# Altium footprint library TO252 (DPAK).PcbLib: 1 footprints
Each footprint in its own frame and in the unit in brackets; x right, y up, seen from the top. Pads: shape width x height; smd on the part's side, far side on the other; paste and mask are expansions set on the pad; w line width, h text height; cw(c..) or ccw(c..) is an arc to the next point about the centre after c.
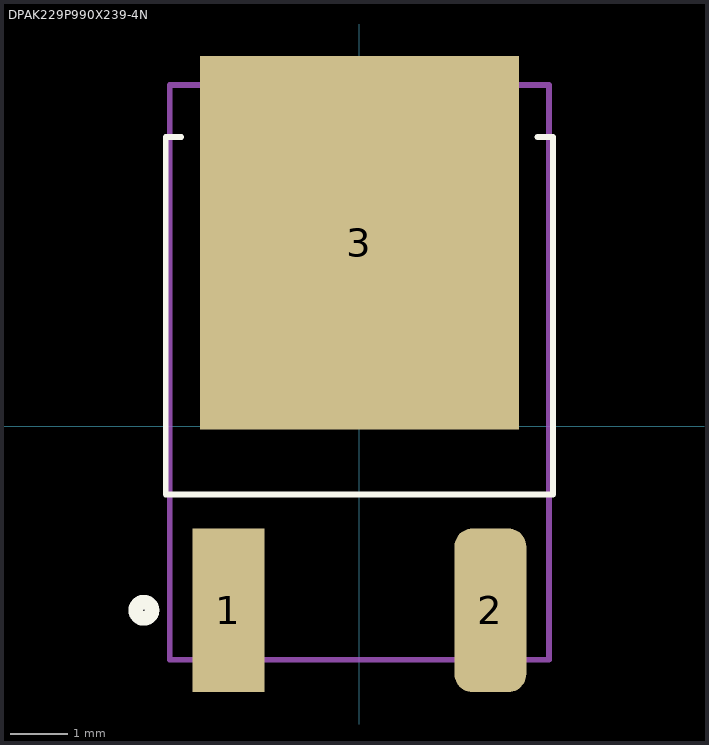
[diagram p0: the footprint, top view; thin cyan lines are the x and y axes]

## DPAK229P990X239-4N [mm]
pads (3):
  rect 1.25x2.85 smd mask+0: 1(-2.28,-3.2)
  rrect50% 1.25x2.85 smd mask+0: 2(2.28,-3.2)
  rect 5.55x6.5 smd mask+0: 3(0,3.2)
Top Overlay:
  circle w0.254: c-3.75,-3.2 r0.141
  lines w0.1: -3.1,5.038 -3.37,5.038 -3.37,-1.183 3.37,-1.183 3.37,5.038 3.1,5.038
Mechanical 13:
  lines w0.1: -3.3,-4.06 3.3,-4.06 3.3,5.94 -3.3,5.94 -3.3,-4.06
Mechanical 15:
  lines w0.1: -0.5,0.94 0,0.94 ; 0,0.44 0,0.94 ; 0,1.44 0,0.94 ; 0.5,0.94 0,0.94
3D body "TO252 (DPAK).STEP": height 2.53, standoff 0.01, extent -3.27,-4.052 3.27,5.853